# Altium schematic symbol library LORA127X-C1.SchLib: 1 symbol
Pins are listed as number, name and electrical type; pins without a type are passive.

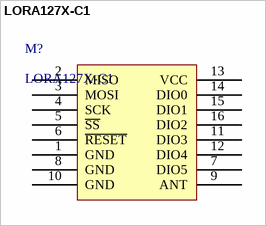
[diagram p0: symbol LORA127X-C1]

## LORA127X-C1
designator M?
footprint LoRa127X-C1
pins: 1 GND, 2 MISO, 3 MOSI, 4 SCK, 5 ~{SS}, 6 ~{RESET}, 7 DIO5, 8 GND, 9 ANT, 10 GND, 11 DIO3, 12 DIO4, 13 VCC, 14 DIO0, 15 DIO1, 16 DIO2